# Altium footprint library CAP-CER.PcbLib: 1 footprints
Each footprint in its own frame and in the unit in brackets; x right, y up, seen from the top. Pads: shape width x height; smd on the part's side, far side on the other; paste and mask are expansions set on the pad; w line width, h text height; cw(c..) or ccw(c..) is an arc to the next point about the centre after c.
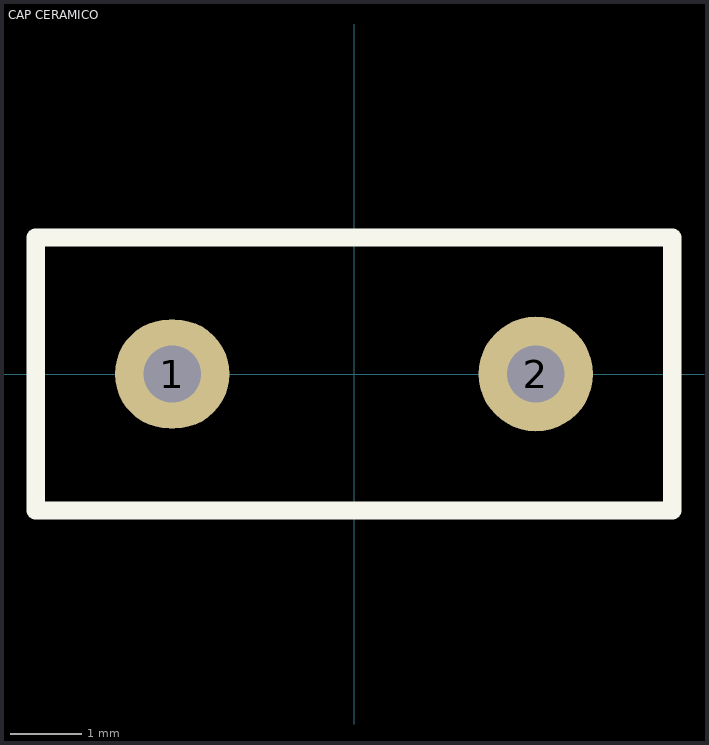
[diagram p0: the footprint, top view; thin cyan lines are the x and y axes]

## CAP CERAMICO [mm] "CAPACITOR CERAMICO 100nf"
pads (2):
  oval 1.6x1.524 hole 0.8: 1(-2.54,0)
  round 1.6 hole 0.8: 2(2.54,0)
Top Overlay:
  lines w0.254: -4.445,-1.905 -4.445,1.905 4.445,1.905 4.445,-1.905 -4.445,-1.905
3D body "CAP-CER.stp": height 9.5, standoff -4, extent -3.98,-2.247 3.98,2.247